# EAGLE library part MC14043BCP (library User-Submitted)
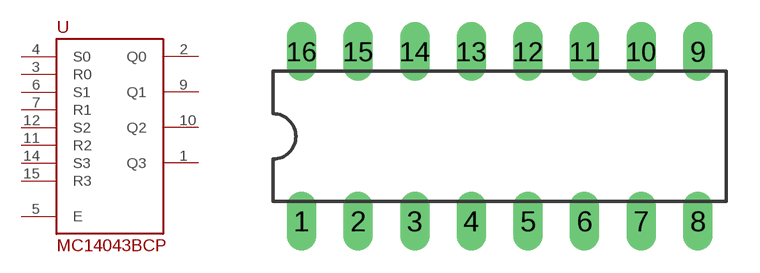
[diagram p33: symbol with the pads of DIL16; footprint DIL16]

Designator prefix -

## MC14043BCP  [DIL16]
1  Q3  hiz
2  Q0  hiz
3  R0  in
4  S0  in
5  E  in
6  S1  in
7  R1  in
9  Q1  hiz
10  Q2  hiz
11  R2  in
12  S2  in
14  S3  in
15  R3  in

## Footprint DIL16 (pad centres in mm)
Dual In Line Package
drill 0.813 long: 1 -8.89,-3.81; 2 -6.35,-3.81; 3 -3.81,-3.81; 4 -1.27,-3.81; 5 1.27,-3.81; 6 3.81,-3.81; 7 6.35,-3.81; 8 8.89,-3.81; 9 8.89,3.81; 10 6.35,3.81; 11 3.81,3.81; 12 1.27,3.81; 13 -1.27,3.81; 14 -3.81,3.81; 15 -6.35,3.81; 16 -8.89,3.81